# Altium schematic symbol library BIB SCH GERAL.SchLib: 587 symbols (part 3 of 4)
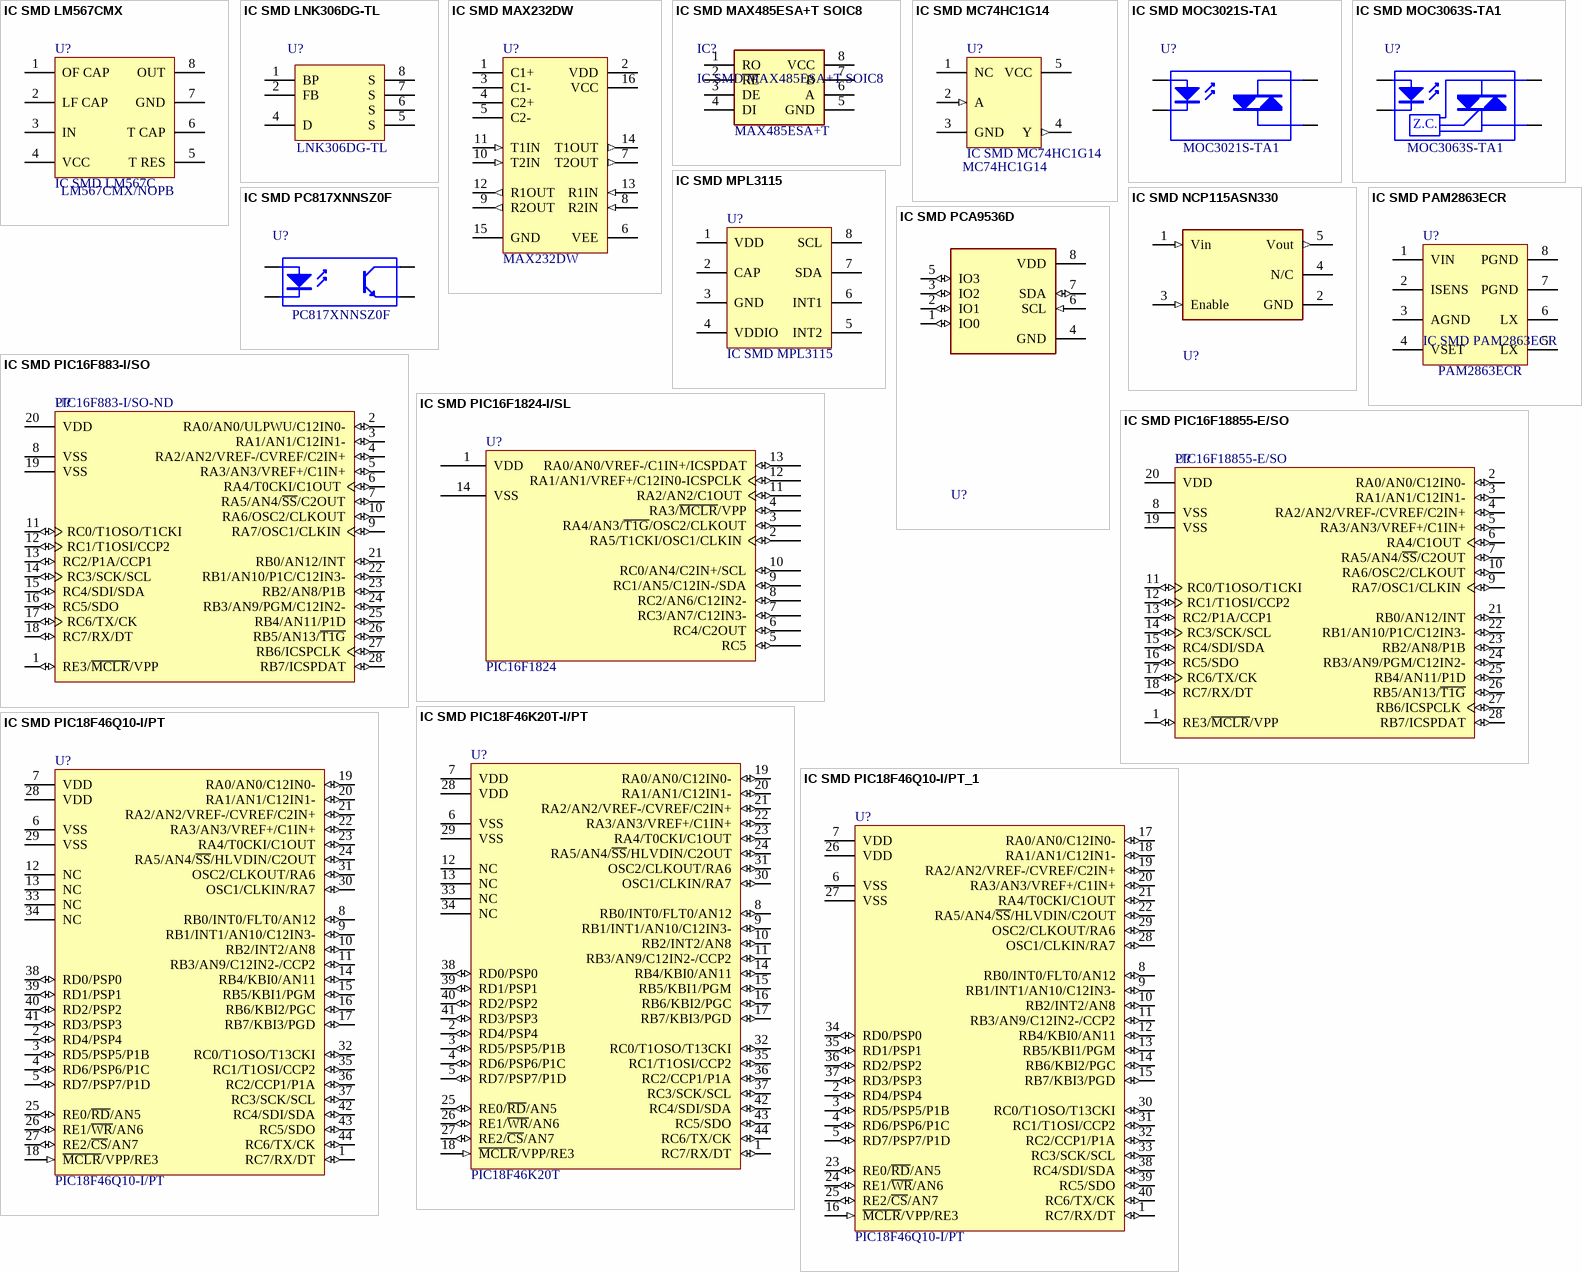
[diagram p17: symbols IC SMD LM567CMX to IC SMD PIC18F46Q10-I/PT_1]

## IC SMD PIC16F1824-I/SL
designator U?, comment PIC16F1824
Flash-Based 8-Bit CMOS Microcontroller with nanoWatt Technology, 7K Program Memory, 256 Bytes Data Memory, 256 Bytes EEPROM Memory, 12 I/O pins, 14-Pin SOIC, Standard VDD Range, Industrial Temperature; Manufacturer: Microchip; Manufacturer Part Number: PIC16F1824-I/SL; COD. CRISTOFOLI: EMP.00404; List: IC MCU 8BIT 7KB FLASH 14SOIC/PIC16F1824-I/SL/Microchip Technology; PackageDescription: 14-Lead Plastic Small Outline (SL) - Narrow, 3.90mm Body [SOIC]; PackageReference: SOIC-SL14; URLdatasheet: http://ww1.microchip.com/downloads/en/DeviceDoc/41419D.pdf; URLdistribuidor1: http://br.mouser.com/ProductDetail/Microchip/PIC16F1824-I-SL/?qs=%2fha2pyFadujaS0CXibBXJLHUovI9P%252biyA2UaNhp7D5lD110CbejmjQ%3d%3d; URLdistribuidor2: http://www.digikey.com/product-detail/en/PIC16F1824-I%2FSL/PIC16F1824-I%2FSL-ND/2480334; URLdistribuidor3: http://www.farnellnewark.com.br/cismdmcu32mhzsoic14p,product,1814945,4442636.aspx
footprint SOIC-SL14_L (SOIC, 14-Leads, Body 8.7x3.9mm, Pitch 1.27mm, IPC High Density)
footprint SOIC-SL14_M (SOIC, 14-Leads, Body 8.7x3.9mm, Pitch 1.27mm, IPC Low Density)
footprint SOIC-SL14_N (SOIC, 14-Leads, Body 8.7x3.9mm, Pitch 1.27mm, IPC Medium Density)
pins: 1 VDD (power), 2 RA5/T1CKI/OSC1/CLKIN (io), 3 RA4/AN3/~{T1G}/OSC2/CLKOUT (io), 4 RA3/~{MCLR}/VPP (io), 5 RC5 (io), 6 RC4/C2OUT (io), 7 RC3/AN7/C12IN3- (io), 8 RC2/AN6/C12IN2- (io), 9 RC1/AN5/C12IN-/SDA (io), 10 RC0/AN4/C2IN+/SCL (io), 11 RA2/AN2/C1OUT (io), 12 RA1/AN1/VREF+/C12IN0-ICSPCLK (io), 13 RA0/AN0/VREF-/C1IN+/ICSPDAT (io), 14 VSS (power)

## IC SMD PIC16F18855-E/SO
designator U?  Manufacturer Part Number: PIC16F18855-E/SO  (hidden comment: IC SMD PIC16F18855-E/SO)
Manufacturer: Microchip; List: IC MCU 8BIT 14KB FLASH 28SOIC/PIC16F18855-E/SO/critico/Microchip; COD. CRISTOFOLI: EMP.00387; Published: 29-Jan-2009; LatestRevisionDate: 02-Dec-2009; LatestRevisionNote: Updated datasheet to version revF, Apr-2009.; DatasheetVersion: revF, Apr-2009; PackageReference: SSOP-SS28; Publisher: Altium Limited; Code_JEDEC: MS-150; Code_IPC: SOP65P780-28; ComponentLink1Description: Datasheet; ComponentLink1URL: http://ww1.microchip.com/downloads/en/DeviceDoc/41291F.pdf; ComponentLink2Description: Packaging Specification; ComponentLink2URL: http://www.microchip.com/stellent/groups/techpub_sg/documents/packagingspec/en012702.pdf; ComponentLink3Description: Microchip.com Home; ComponentLink3URL: http://www.microchip.com/
footprint SSOP-SS28_N (SOP, 28-Leads, Body 10.2x5.2mm, Pitch 0.65mm, IPC Medium Density)
footprint SSOP-SS28_L (SOP, 28-Leads, Body 10.2x5.2mm, Pitch 0.65mm, IPC High Density)
footprint SSOP-SS28_M (SOP, 28-Leads, Body 10.2x5.2mm, Pitch 0.65mm, IPC Low Density)
pins: 1 RE3/~{MCLR}/VPP (io), 2 RA0/AN0/C12IN0- (io), 3 RA1/AN1/C12IN1- (io), 4 RA2/AN2/VREF-/CVREF/C2IN+ (io), 5 RA3/AN3/VREF+/C1IN+ (io), 6 RA4/C1OUT (io), 7 RA5/AN4/~{SS}/C2OUT (io), 8 VSS (power), 9 RA7/OSC1/CLKIN (io), 10 RA6/OSC2/CLKOUT (io), 11 RC0/T1OSO/T1CKI (io), 12 RC1/T1OSI/CCP2 (io), 13 RC2/P1A/CCP1 (io), 14 RC3/SCK/SCL (io), 15 RC4/SDI/SDA (io), 16 RC5/SDO (io), 17 RC6/TX/CK (io), 18 RC7/RX/DT (io), 19 VSS (power), 20 VDD (power), 21 RB0/AN12/INT (io), 22 RB1/AN10/P1C/C12IN3- (io), 23 RB2/AN8/P1B (io), 24 RB3/AN9/PGM/C12IN2- (io), 25 RB4/AN11/P1D (io), 26 RB5/AN13/~{T1G} (io), 27 RB6/ICSPCLK (io), 28 RB7/ICSPDAT (io)

## IC SMD PIC18F46K20T-I/PT
designator U?, comment PIC18F46K20T
10-Bit A/D, 32K Flash, 44-Pin TQFP; Manufacturer Part Number: PIC18F46K20T-I/PTTR-ND; Manufacturer: Microchip; COD. CRISTOFOLI: EMP.00259; List: Microcontroller 32K Flash, 44-Pin TQFP/PIC18F46K20T-I/PT/Microchip Technology/CRITICO; Published: 2-Dec-2009; DatasheetVersion: revF, Sep-2009; PackageVersion: revBB, Aug-2009; PackageReference: TQFP-PT44; Publisher: Altium Limited; PackageDescription: 44-Lead Plastic Thin Quad Flatpack (PT) - 10x10x1mm Body, 2.00mm [TQFP]; Supplier 1: Digi-Key; ComponentLink1URL: http://ww1.microchip.com/downloads/en/DeviceDoc/41303F.pdf; ComponentLink2Description: Packaging Specification; ComponentLink2URL: http://www.microchip.com/stellent/groups/techpub_sg/documents/packagingspec/en012702.pdf; ComponentLink3URL: http://www.microchip.com/
footprint TQFP-PT44_N (Thin QFP, 44-Leads, Body 10x10mm, Pitch 0.8mm, IPC Medium Density)
footprint TQFP-PT44_L (Thin QFP, 44-Leads, Body 10x10mm, Pitch 0.8mm, IPC High Density)
footprint TQFP-PT44_M (Thin QFP, 44-Leads, Body 10x10mm, Pitch 0.8mm, IPC Low Density)
pins: 1 RC7/RX/DT (io), 2 RD4/PSP4 (io), 3 RD5/PSP5/P1B (io), 4 RD6/PSP6/P1C (io), 5 RD7/PSP7/P1D (io), 6 VSS (power), 7 VDD (power), 8 RB0/INT0/FLT0/AN12 (io), 9 RB1/INT1/AN10/C12IN3- (io), 10 RB2/INT2/AN8 (io), 11 RB3/AN9/C12IN2-/CCP2 (io), 12 NC, 13 NC, 14 RB4/KBI0/AN11 (io), 15 RB5/KBI1/PGM (io), 16 RB6/KBI2/PGC (io), 17 RB7/KBI3/PGD (io), 18 ~{MCLR}/VPP/RE3 (in), 19 RA0/AN0/C12IN0- (io), 20 RA1/AN1/C12IN1- (io), 21 RA2/AN2/VREF-/CVREF/C2IN+ (io), 22 RA3/AN3/VREF+/C1IN+ (io), 23 RA4/T0CKI/C1OUT (io), 24 RA5/AN4/~{SS}/HLVDIN/C2OUT (io), 25 RE0/~{RD}/AN5 (io), 26 RE1/~{WR}/AN6 (io), 27 RE2/~{CS}/AN7 (io), 28 VDD (power), 29 VSS (power), 30 OSC1/CLKIN/RA7 (io), 31 OSC2/CLKOUT/RA6 (io), 32 RC0/T1OSO/T13CKI (io), 33 NC, 34 NC, 35 RC1/T1OSI/CCP2 (io), 36 RC2/CCP1/P1A (io), 37 RC3/SCK/SCL (io), 38 RD0/PSP0 (io), 39 RD1/PSP1 (io), 40 RD2/PSP2 (io), 41 RD3/PSP3 (io), 42 RC4/SDI/SDA (io), 43 RC5/SDO (io), 44 RC6/TX/CK (io)

## IC SMD PIC18F46Q10-I/PT
designator U?, comment PIC18F46Q10-I/PT
MICROCONTROLADOR PIC18F46Q10-I/PT; COD. CRISTOFOLI: EMP.00416; Published: 2-Dec-2009; DatasheetVersion: revF, Sep-2009; PackageVersion: revBB, Aug-2009; PackageReference: TQFP-PT44; Publisher: Altium Limited; PackageDescription: 44-Lead Plastic Thin Quad Flatpack (PT) - 10x10x1mm Body, 2.00mm [TQFP]; Supplier 1: Digi-Key; Supplier Part Number 1: PIC18F46Q10-I/PT; Code_JEDEC: MS-026; ComponentLink1Description: Datasheet; ComponentLink1URL: http://ww1.microchip.com/downloads/en/DeviceDoc/41303F.pdf; ComponentLink2Description: Packaging Specification; ComponentLink2URL: http://www.microchip.com/stellent/groups/techpub_sg/documents/packagingspec/en012702.pdf; ComponentLink3Description: Microchip.com Home; ComponentLink3URL: http://www.microchip.com/
footprint TQFP-PT44_N (Thin QFP, 44-Leads, Body 10x10mm, Pitch 0.8mm, IPC Medium Density)
footprint TQFP-PT44_L (Thin QFP, 44-Leads, Body 10x10mm, Pitch 0.8mm, IPC High Density)
footprint TQFP-PT44_M (Thin QFP, 44-Leads, Body 10x10mm, Pitch 0.8mm, IPC Low Density)
pins: 1 RC7/RX/DT (io), 2 RD4/PSP4 (io), 3 RD5/PSP5/P1B (io), 4 RD6/PSP6/P1C (io), 5 RD7/PSP7/P1D (io), 6 VSS (power), 7 VDD (power), 8 RB0/INT0/FLT0/AN12 (io), 9 RB1/INT1/AN10/C12IN3- (io), 10 RB2/INT2/AN8 (io), 11 RB3/AN9/C12IN2-/CCP2 (io), 12 NC, 13 NC, 14 RB4/KBI0/AN11 (io), 15 RB5/KBI1/PGM (io), 16 RB6/KBI2/PGC (io), 17 RB7/KBI3/PGD (io), 18 ~{MCLR}/VPP/RE3 (in), 19 RA0/AN0/C12IN0- (io), 20 RA1/AN1/C12IN1- (io), 21 RA2/AN2/VREF-/CVREF/C2IN+ (io), 22 RA3/AN3/VREF+/C1IN+ (io), 23 RA4/T0CKI/C1OUT (io), 24 RA5/AN4/~{SS}/HLVDIN/C2OUT (io), 25 RE0/~{RD}/AN5 (io), 26 RE1/~{WR}/AN6 (io), 27 RE2/~{CS}/AN7 (io), 28 VDD (power), 29 VSS (power), 30 OSC1/CLKIN/RA7 (io), 31 OSC2/CLKOUT/RA6 (io), 32 RC0/T1OSO/T13CKI (io), 33 NC, 34 NC, 35 RC1/T1OSI/CCP2 (io), 36 RC2/CCP1/P1A (io), 37 RC3/SCK/SCL (io), 38 RD0/PSP0 (io), 39 RD1/PSP1 (io), 40 RD2/PSP2 (io), 41 RD3/PSP3 (io), 42 RC4/SDI/SDA (io), 43 RC5/SDO (io), 44 RC6/TX/CK (io)

## IC SMD PIC18F46Q10-I/PT_1
designator U?, comment PIC18F46Q10-I/PT
MICROCONTROLADOR PIC18F46Q10-I/MP; COD. CRISTOFOLI: EMP.00462; Published: 2-Dec-2009; DatasheetVersion: revF, Sep-2009; PackageVersion: revBB, Aug-2009; PackageReference: QFN-40; Publisher: Altium Limited; PackageDescription: 44-Lead Plastic Thin Quad Flatpack (PT) - 10x10x1mm Body, 2.00mm [TQFP]; Supplier 1: Digi-Key; Supplier Part Number 1: PIC18F46Q10-I/MP; Code_JEDEC: MS-026; ComponentLink1Description: Datasheet; ComponentLink1URL: http://ww1.microchip.com/downloads/en/DeviceDoc/41303F.pdf; ComponentLink2Description: Packaging Specification; ComponentLink2URL: http://www.microchip.com/stellent/groups/techpub_sg/documents/packagingspec/en012702.pdf; ComponentLink3Description: Microchip.com Home; ComponentLink3URL: http://www.microchip.com/
footprint QFN40-5x5 (QFN, 40-Leads, Body 5x5mm, Pitch 0.4mm, Thermal Pad 3.15x3.15mm, TI Recommended)
footprint TQFP-PT44_L (Thin QFP, 44-Leads, Body 10x10mm, Pitch 0.8mm, IPC High Density)
footprint TQFP-PT44_M (Thin QFP, 44-Leads, Body 10x10mm, Pitch 0.8mm, IPC Low Density)
pins: 1 RC7/RX/DT (io), 2 RD4/PSP4 (io), 3 RD5/PSP5/P1B (io), 4 RD6/PSP6/P1C (io), 5 RD7/PSP7/P1D (io), 6 VSS (power), 7 VDD (power), 8 RB0/INT0/FLT0/AN12 (io), 9 RB1/INT1/AN10/C12IN3- (io), 10 RB2/INT2/AN8 (io), 11 RB3/AN9/C12IN2-/CCP2 (io), 12 RB4/KBI0/AN11 (io), 13 RB5/KBI1/PGM (io), 14 RB6/KBI2/PGC (io), 15 RB7/KBI3/PGD (io), 16 ~{MCLR}/VPP/RE3 (in), 17 RA0/AN0/C12IN0- (io), 18 RA1/AN1/C12IN1- (io), 19 RA2/AN2/VREF-/CVREF/C2IN+ (io), 20 RA3/AN3/VREF+/C1IN+ (io), 21 RA4/T0CKI/C1OUT (io), 22 RA5/AN4/~{SS}/HLVDIN/C2OUT (io), 23 RE0/~{RD}/AN5 (io), 24 RE1/~{WR}/AN6 (io), 25 RE2/~{CS}/AN7 (io), 26 VDD (power), 27 VSS (power), 28 OSC1/CLKIN/RA7 (io), 29 OSC2/CLKOUT/RA6 (io), 30 RC0/T1OSO/T13CKI (io), 31 RC1/T1OSI/CCP2 (io), 32 RC2/CCP1/P1A (io), 33 RC3/SCK/SCL (io), 34 RD0/PSP0 (io), 35 RD1/PSP1 (io), 36 RD2/PSP2 (io), 37 RD3/PSP3 (io), 38 RC4/SDI/SDA (io), 39 RC5/SDO (io), 40 RC6/TX/CK (io)

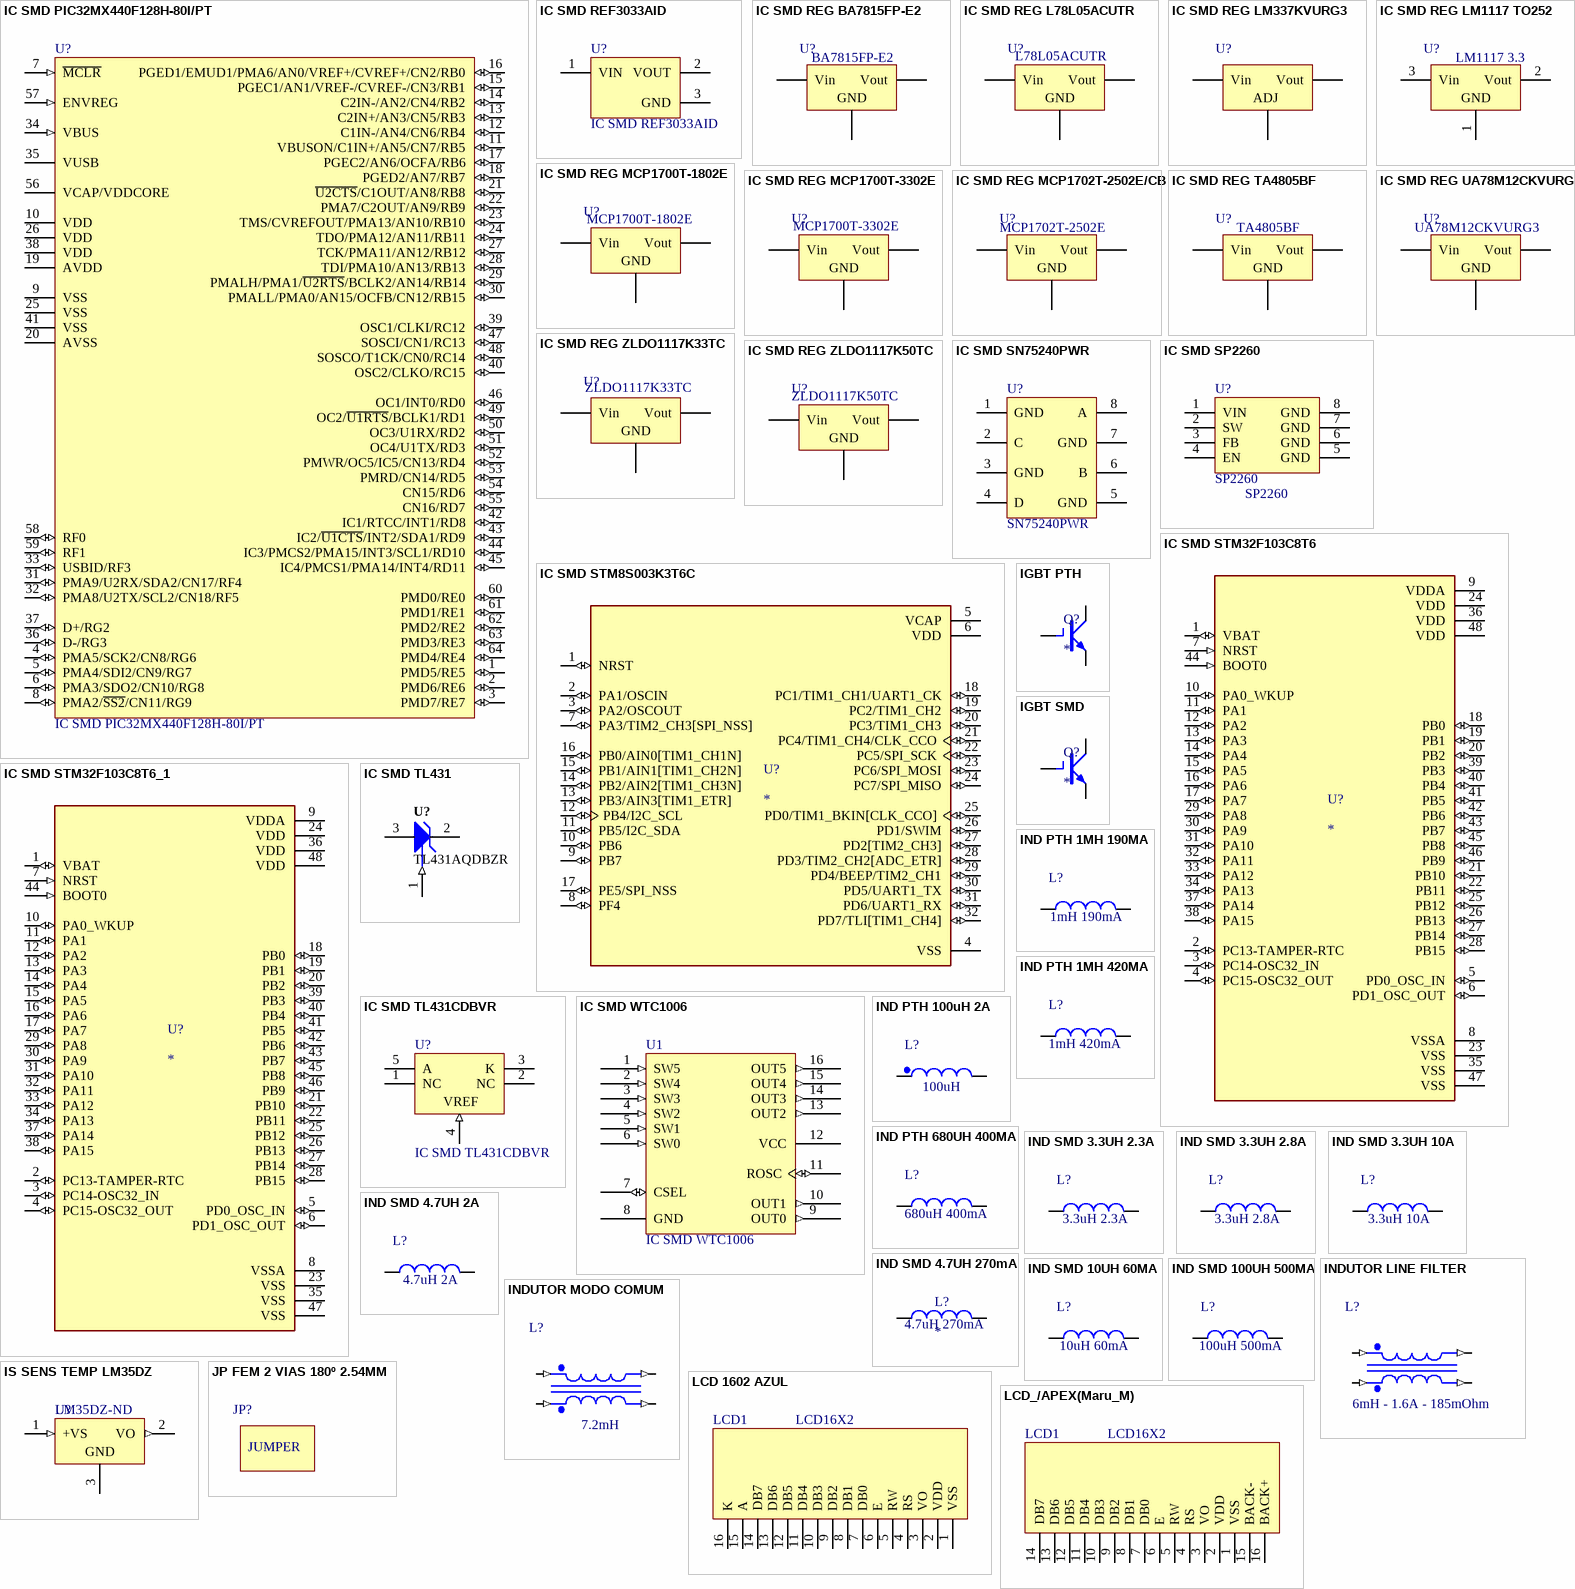
[diagram p8: symbols IC SMD PIC32MX440F128H-80I/PT to LCD_/APEX(Maru_M)]

## IC SMD PIC32MX440F128H-80I/PT
designator U?
80 MHz, 32-Bit, USB, 128KB Program Memory, 64-pin TQFP; Manufacturer Part Number: PIC32MX440F128H-80I/PT-ND; Manufacturer: Microchip; COD. CRISTOFOLI: EMP.00127; List: IC MCU 32BIT 128KB FLASH 64TQFP/PIC32MX440F128H-80I/PT/Microchip; Published: 29-Jan-2009; LatestRevisionDate: 2-Dec-2009; LatestRevisionNote: Datasheet updated to version revF, Jun-2009.; DatasheetVersion: revF, Jun-2009; PackageVersion: revBB, Aug-2009; PackageReference: TQFP-PT64; Publisher: Altium Limited; PackageDescription: 64-Lead Thin Plastic Quad Flat Pack (PT) - 10x10x1mm Body, 2.00mm [TQFP]; Supplier 1: Digi-Key; Supplier 2: Farnell; Supplier Part Number 2: 1778945; ComponentLink1URL: http://ww1.microchip.com/downloads/en/DeviceDoc/61143F.pdf; ComponentLink2Description: Packaging Specification; ComponentLink2URL: http://ww1.microchip.com/downloads/en/PackagingSpec/en012702.pdf; ComponentLink3URL: http://www.microchip.com/
footprint TQFP-PT64_N (Thin QFP, 64-Leads, Body 10x10mm, Pitch 0.5mm, IPC Medium Density)
footprint TQFP-PT64_L (Thin QFP, 64-Leads, Body 10x10mm, Pitch 0.5mm, IPC High Density)
footprint TQFP-PT64_M (Thin QFP, 64-Leads, Body 10x10mm, Pitch 0.5mm, IPC Low Density)
pins: 1 PMD5/RE5 (io), 2 PMD6/RE6 (io), 3 PMD7/RE7 (io), 4 PMA5/SCK2/CN8/RG6 (io), 5 PMA4/SDI2/CN9/RG7 (io), 6 PMA3/SDO2/CN10/RG8 (io), 7 ~{MCLR} (in), 8 PMA2/~{SS2}/CN11/RG9 (io), 9 VSS (power), 10 VDD (power), 11 VBUSON/C1IN+/AN5/CN7/RB5 (io), 12 C1IN-/AN4/CN6/RB4 (io), 13 C2IN+/AN3/CN5/RB3 (io), 14 C2IN-/AN2/CN4/RB2 (io), 15 PGEC1/AN1/VREF-/CVREF-/CN3/RB1 (io), 16 PGED1/EMUD1/PMA6/AN0/VREF+/CVREF+/CN2/RB0 (io), 17 PGEC2/AN6/OCFA/RB6 (io), 18 PGED2/AN7/RB7 (io), 19 AVDD (power), 20 AVSS (power), 21 ~{U2CTS}/C1OUT/AN8/RB8 (io), 22 PMA7/C2OUT/AN9/RB9 (io), 23 TMS/CVREFOUT/PMA13/AN10/RB10 (io), 24 TDO/PMA12/AN11/RB11 (io), 25 VSS (power), 26 VDD (power), 27 TCK/PMA11/AN12/RB12 (io), 28 TDI/PMA10/AN13/RB13 (io), 29 PMALH/PMA1/~{U2RTS}/BCLK2/AN14/RB14 (io), 30 PMALL/PMA0/AN15/OCFB/CN12/RB15 (io), 31 PMA9/U2RX/SDA2/CN17/RF4 (io), 32 PMA8/U2TX/SCL2/CN18/RF5 (io), 33 USBID/RF3 (io), 34 VBUS (in), 35 VUSB (power), 36 D-/RG3 (io), 37 D+/RG2 (io), 38 VDD (power), 39 OSC1/CLKI/RC12 (io), 40 OSC2/CLKO/RC15 (io), 41 VSS (power), 42 IC1/RTCC/INT1/RD8 (io), 43 IC2/~{U1CTS}/INT2/SDA1/RD9 (io), 44 IC3/PMCS2/PMA15/INT3/SCL1/RD10 (io), 45 IC4/PMCS1/PMA14/INT4/RD11 (io), 46 OC1/INT0/RD0 (io), 47 SOSCI/CN1/RC13 (io), 48 SOSCO/T1CK/CN0/RC14 (io), 49 OC2/~{U1RTS}/BCLK1/RD1 (io), 50 OC3/U1RX/RD2 (io), 51 OC4/U1TX/RD3 (io), 52 PMWR/OC5/IC5/CN13/RD4 (io), 53 PMRD/CN14/RD5 (io), 54 CN15/RD6 (io), 55 CN16/RD7 (io), 56 VCAP/VDDCORE (power), 57 ENVREG (in), 58 RF0 (io), 59 RF1 (io), 60 PMD0/RE0 (io), 61 PMD1/RE1 (io), 62 PMD2/RE2 (io), 63 PMD3/RE3 (io), 64 PMD4/RE4 (io)

## IC SMD REF3033AID
designator U?
REFERENCIA 3V3; List: IC VREF SERIES PREC 3.3V SOT23-3/REF3033AIDBZT/Texas Instrument; COD. CRISTOFOLI: EMP.00153
footprint SOT-23
pins: 1 VIN (power), 2 VOUT (power), 3 GND (power)

## IC SMD REG BA7815FP-E2
designator U?  value BA7815FP-E2  (hidden comment: IC SMD REG BA7815FP-E2)
REGULADOR 15V 1A; Manufacturer: ROHM Semiconductor; COD. CRISTOFOLI: EMP.00341; List: REG STANDARD REG POS 15V 1A TO252-3/755-BA7815FP-E2/ROHM Semiconductor; Manufacturer Part Number: BA7815FP-E2
pins: 1 Vin, 2 GND, 3 Vout

## IC SMD REG L78L05ACUTR
designator U?  value L78L05ACUTR  (hidden comment: IC SMD REG L78L05ACUTR)
REGULADOR 5V 100mA; COD. CRISTOFOLI: EMP.00403; List: IC REG LINEAR 5V 150MA SOT89-3/MCP1804T-5002I/MB/Microchip Technology/L78L05ACUTR/ STMicroelectronics; Manufacturer Part Number: L78L05ACUTR
pins: 1 Vin, 2 GND, 3 Vout

## IC SMD REG LM337KVURG3
designator U?, comment LM337KVURG3  (value not drawn)
IC REG LIN NEG ADJ 1.5A TO252-3; Manufacturer: Texas Instruments; COD. CRISTOFOLI: EMP.00431; Voltage: -1.2 A -37V; List: REGULADOR DE TENSAO AJUSTAVEL TO-252-3 LM337KVURG3; Manufacturer Part Number: LM337KVURG3; Value: LM337KVURG3
footprint DPAK228P970X238-3M (D-PAK, 3-Pads, Body 6,20x6,72mm (max), IPC Medium Density)
pins: 1 ADJ, 2 Vin, 3 Vout

## IC SMD REG LM1117 TO252
designator U?, comment LM1117  (value not drawn)
800mA Low-Dropout Linear Regulator; Manufacturer: Texas Instruments; COD. CRISTOFOLI: EMP.50030; Voltage: 1.8 A 5V; List: IC SMD REG LM1117 TO252; Value: LM1117
footprint TO252-3
pins: 1 ADJ, 2 Vout, 3 Vin
text: LM1117 3.3; GND

## IC SMD REG MCP1700T-1802E
designator U?  value MCP1700T-1802E  (hidden comment: IC SMD REG MCP1700T-1802E)
REGULADOR 1V8 200mA; Manufacturer: Microchip Technology; Manufacturer Part Number: MCP1700T-1802E/MB; COD. CRISTOFOLI: EMP.00178; List: IC REG LDO 1.8V 0.2A SOT89-3/MCP1700T-1802E/MB/Microchip Technology
pins: 1 Vin, 2 GND, 3 Vout

## IC SMD REG MCP1700T-3302E
designator U?  value MCP1700T-3302E  (hidden comment: IC SMD REG MCP1700T-3302E)
REGULADOR 3V3 250mA; Manufacturer: Microchip Technology; Manufacturer Part Number: MCP1700T-3302E/MB; COD. CRISTOFOLI: EMP.00177; List: IC REG LDO 3.3V 0.25A SOT89-3/MCP1700T-3302E/MB/Microchip Technology
pins: 1 Vin, 2 GND, 3 Vout

## IC SMD REG MCP1702T-2502E/CB
designator U?  value MCP1702T-2502E  (hidden comment: IC SMD REG MCP1702T-2502E/CB)
REGULADOR 2V5 250mA; Manufacturer: Microchip; COD. CRISTOFOLI: EMP.00122; List: IC REG LDO 2.5V 0.25A SOT23A-3/MCP1702T-2502E/CB/Microchip; Manufacturer Part Number: MCP1702T-2502E/CB
pins: 1 Vin, 2 GND, 3 Vout

## IC SMD REG TA4805BF
designator U?  value TA4805BF  (hidden comment: IC SMD REG TA4805BF)
REGULADOR 5V 1A; Manufacturer: Toshiba; Manufacturer Part Number: TA4805BF(T6L1,NQ); COD. CRISTOFOLI: EMP.00233; List: REG LDO Voltage Regulators Voltage Reg LDO In=16V Out=5V 1A/757-TA4805BF(T6L1,NQ)/Toshiba
pins: 1 Vin, 2 GND, 3 Vout

## IC SMD REG UA78M12CKVURG3
designator U?  value UA78M12CKVURG3  (hidden comment: IC SMD REG UA78M12CKVURG3)
REGULADOR 5V 500mA; Manufacturer: Texas Instruments; COD. CRISTOFOLI: EMP.00262; List: IC REG LDO 12V 0.5A TO252-3/UA78M12CKVURG3/Texas Instruments; Manufacturer Part Number: UA78M12CKVURG3
pins: 1 Vin, 2 GND, 3 Vout

## IC SMD REG ZLDO1117K33TC
designator U?  value ZLDO1117K33TC  (hidden comment: IC SMD REG ZLDO1117K33TC)
REGULADOR 3V3 1A; Manufacturer: Diodes Inc; COD. CRISTOFOLI: EMP.00155; List: IC REG LDO 3.3V 1A TO252-3/ZLDO1117K33TC/Diodes Inc; Manufacturer Part Number: ZLDO1117K33TC
pins: 1 GND, 2 Vout, 3 Vin

## IC SMD REG ZLDO1117K50TC
designator U?  value ZLDO1117K50TC  (hidden comment: IC SMD REG ZLDO1117K50TC)
REGULADOR 5V 1A; Manufacturer: Diodes Inc; COD. CRISTOFOLI: EMP.00154; List: IC REG LDO 5V 1A TO252-3/ZLDO1117K50TC/Diodes Inc; Manufacturer Part Number: ZLDO1117K50TC
pins: 1 GND, 2 Vout, 3 Vin

## IC SMD SN75240PWR
designator U?, comment SN75240PWR
IC DUAL USB PORT TVS 8-TSSOP; List: IC DUAL USB PORT TVS 8-TSSOP/SN75240PWR/Texas Instrument; COD. CRISTOFOLI: EMP.00151
footprint PW008
pins: 1 GND, 2 C, 3 GND, 4 D, 5 GND, 6 B, 7 GND, 8 A

## IC SMD SP2260
designator U?, comment SP2260
60V Buck LED Driver; COD. CRISTOFOLI: EMP.00000; List: 60V Buck LED Driver; ComponentLink1Description: Manufacturer Link; ComponentLink1URL: http://www.maxim-ic.com/; ComponentLink2Description: Datasheet; ComponentLink2URL: http://pdfserv.maxim-ic.com/en/ds/MAX220-MAX249.pdf; PARTNUMBER: SP2260
pins: 1 VIN, 2 SW, 3 FB, 4 EN, 5 GND, 6 GND, 7 GND, 8 GND

## IC SMD STM8S003K3T6C
designator U?
Mainstream Value line 8-bit MCU with 8 Kbytes Flash, 16 MHz CPU, integrated EEPROM; MP: aaaaaaaaaaaaaaaa; Package: None; Price: None; Availability: Unavailable; Value: *
footprint STM8S003K3T6C
pins: 1 NRST (io), 2 PA1/OSCIN (io), 3 PA2/OSCOUT (io), 4 VSS (power), 5 VCAP (power), 6 VDD (power), 7 PA3/TIM2_CH3[SPI_NSS] (io), 8 PF4 (io), 9 PB7 (io), 10 PB6 (io), 11 PB5/I2C_SDA (io), 12 PB4/I2C_SCL (io), 13 PB3/AIN3[TIM1_ETR] (io), 14 PB2/AIN2[TIM1_CH3N] (io), 15 PB1/AIN1[TIM1_CH2N] (io), 16 PB0/AIN0[TIM1_CH1N] (io), 17 PE5/SPI_NSS (io), 18 PC1/TIM1_CH1/UART1_CK (io), 19 PC2/TIM1_CH2 (io), 20 PC3/TIM1_CH3 (io), 21 PC4/TIM1_CH4/CLK_CCO (io), 22 PC5/SPI_SCK (io), 23 PC6/SPI_MOSI (io), 24 PC7/SPI_MISO (io), 25 PD0/TIM1_BKIN[CLK_CCO] (io), 26 PD1/SWIM (io), 27 PD2[TIM2_CH3] (io), 28 PD3/TIM2_CH2[ADC_ETR] (io), 29 PD4/BEEP/TIM2_CH1 (io), 30 PD5/UART1_TX (io), 31 PD6/UART1_RX (io), 32 PD7/TLI[TIM1_CH4] (io)

## IC SMD STM32F103C8T6
designator U?
Mainstream Performance line, ARM Cortex-M3 MCU with 64 Kbytes Flash, 72 MHz CPU, motor control, USB and CAN; MP: STM32F103C8T6; Value: *; Availability: Unavailable; Price: None; Package: None
footprint QFP50P900X900X160-48N
pins: 1 VBAT (io), 2 PC13-TAMPER-RTC (io), 3 PC14-OSC32_IN (io), 4 PC15-OSC32_OUT (io), 5 PD0_OSC_IN (io), 6 PD1_OSC_OUT (io), 7 NRST (in), 8 VSSA (power), 9 VDDA (power), 10 PA0_WKUP (io), 11 PA1 (io), 12 PA2 (io), 13 PA3 (io), 14 PA4 (io), 15 PA5 (io), 16 PA6 (io), 17 PA7 (io), 18 PB0 (io), 19 PB1 (io), 20 PB2 (io), 21 PB10 (io), 22 PB11 (io), 23 VSS (power), 24 VDD (power), 25 PB12 (io), 26 PB13 (io), 27 PB14 (io), 28 PB15 (io), 29 PA8 (io), 30 PA9 (io), 31 PA10 (io), 32 PA11 (io), 33 PA12 (io), 34 PA13 (io), 35 VSS (power), 36 VDD (power), 37 PA14 (io), 38 PA15 (io), 39 PB3 (io), 40 PB4 (io), 41 PB5 (io), 42 PB6 (io), 43 PB7 (io), 44 BOOT0 (in), 45 PB8 (io), 46 PB9 (io), 47 VSS (power), 48 VDD (power)

## IC SMD STM32F103C8T6_1
designator U?
Mainstream Performance line, ARM Cortex-M3 MCU with 64 Kbytes Flash, 72 MHz CPU, motor control, USB and CAN; MP: STM32F103C8T6; Value: *; Availability: Unavailable; Price: None; Package: None
footprint QFP50P900X900X160-48N
pins: 1 VBAT (io), 2 PC13-TAMPER-RTC (io), 3 PC14-OSC32_IN (io), 4 PC15-OSC32_OUT (io), 5 PD0_OSC_IN (io), 6 PD1_OSC_OUT (io), 7 NRST (in), 8 VSSA (power), 9 VDDA (power), 10 PA0_WKUP (io), 11 PA1 (io), 12 PA2 (io), 13 PA3 (io), 14 PA4 (io), 15 PA5 (io), 16 PA6 (io), 17 PA7 (io), 18 PB0 (io), 19 PB1 (io), 20 PB2 (io), 21 PB10 (io), 22 PB11 (io), 23 VSS (power), 24 VDD (power), 25 PB12 (io), 26 PB13 (io), 27 PB14 (io), 28 PB15 (io), 29 PA8 (io), 30 PA9 (io), 31 PA10 (io), 32 PA11 (io), 33 PA12 (io), 34 PA13 (io), 35 VSS (power), 36 VDD (power), 37 PA14 (io), 38 PA15 (io), 39 PB3 (io), 40 PB4 (io), 41 PB5 (io), 42 PB6 (io), 43 PB7 (io), 44 BOOT0 (in), 45 PB8 (io), 46 PB9 (io), 47 VSS (power), 48 VDD (power)

## IC SMD TL431
designator U?, comment TL431AQDBZR
Adjustable Precision Shunt Regulator, 34 ppm / degC, 100 mA, -40 to 125 degC, 3-pin SOT-23 (DBZ), Green (RoHS & no Sb/Br); Manufacturer: Texas Instruments; Iout/Iz(Max)(mA): 100; Min Iz for Regulation(uA): 600; SubFamily: Shunt Voltage Reference; Temp Coeff(Typ)(ppm/ degree C): 34; VO Adj(Max)(V): 36; Rating: Catalog; Initial Accuracy @ 25/deg C(%): 1; VO Adj(Min)(V): 2.495; Temp Coeff(Max)(ppm/ degree C): 92; PackageReference: DBZ0003A; ComponentLink1Description: Manufacturer URL; Mounting Technology: Surface Mount; ComponentLink2URL: http://www.ti.com/general/docs/lit/getliterature.tsp?genericPartNumber=TL431A&fileType=pdf; PackageVersion: 4203227/B; ComponentLink2Description: Datasheet; PackageDescription: 3-Pin Plastic Small Outline, Body 2.92 x 1.3 mm, Pitch 0.95 mm; ComponentLink1URL: http://www.ti.com/; Eco-Plan: Green (RoHS & no Sb/Br); Code_JEDEC: TO-236; ComponentLink3URL: http://www.ti.com/litv/pdf/mpds108a; DatasheetVersion: SLVS543M; ComponentLink3Description: Package Specification; PartNumber: TL431AQDBZR
footprint SOT23 TL431 (SOT23, 3-Leads, Body 3.04x1.4mm, Pitch 0.95mm, IPC High Density)
pins: 1 REF (in), 2 CATHODE, 3 ANODE

## IC SMD TL431CDBVR
designator U?
Adjustable Precision Shunt Regulator; List: IC VREF SHUNT PREC ADJ SOT-23-5/TL431CDBVR/Texas Instuments; COD. CRISTOFOLI: EMP.00106; Published: 15-Apr-2002; LatestRevisionDate: 16-Oct-2006; LatestRevisionNote: IPC-7351 Footprint Added.; DatasheetVersion: Oct-2000; PackageVersion: Apr-2005; PackageReference: DBV005; Publisher: Altium Limited; PackageDescription: 5-Pin SOT-23 Package 0.95 mm Pitch, 2.8 mm Lead Span; Code_JEITA: SC-74A; Code_JEDEC: MO-178AA; Code_IPC: SOT23-5; ComponentLink1Description: Manufacturer Link; ComponentLink1URL: http://www.ti.com/; ComponentLink2Description: Datasheet; ComponentLink2URL: http://www-s.ti.com/sc/ds/tl431a.pdf
footprint DBV005_N (SOT23, 5-Leads, Body 2.9x1.6mm, Pitch 0.95mm, Lead Span 2.8mm, IPC Medium Density)
footprint DBV005_L (SOT23, 5-Leads, Body 2.9x1.6mm, Pitch 0.95mm, Lead Span 2.8mm, IPC High Density)
footprint DBV005_M (SOT23, 5-Leads, Body 2.9x1.6mm, Pitch 0.95mm, Lead Span 2.8mm, IPC Low Density)
simulation model TL431 (SUBCKT)
pins: 1 NC, 2 NC, 3 K (power), 4 REF (in), 5 A (power)
text: VREF

## IC SMD WTC1006
designator U1
TOUCH SENSOR 6 BUTTON; List: IC 6 Teclas, touch/WTC1006BSI/Wincom; COD. CRISTOFOLI: EMP.00128; Datasheet: http://www.wincomtech.com/down/upload/20110817/1313566811.pdf
footprint NSOP16
pins: 1 SW5 (in), 2 SW4 (in), 3 SW3 (in), 4 SW2 (in), 5 SW1 (in), 6 SW0 (in), 7 CSEL (io), 8 GND (power), 9 OUT0 (out), 10 OUT1 (out), 11 ROSC (io), 12 VCC (power), 13 OUT2 (out), 14 OUT3 (out), 15 OUT4 (out), 16 OUT5 (out)

## IGBT PTH
designator Q?
Igbt 600v 48a 150w To268; MP: IXGT24N60C; COD. CRISTOFOLI: EMP.50152; List: IGBT PTH; Package: None; Price: None; Value: *; Availability: Unavailable
footprint TO545P2020X520X2910-3
pins: 1 G, 3 E, 4 C

## IGBT SMD
designator Q?
Igbt 600v 48a 150w To268; MP: IXGT24N60C; Package: None; Price: None; Value: *; Availability: Unavailable
footprint TO545P1890X510-3N
pins: 1 G, 3 E, 4 C

## IND PTH 1MH 190MA
designator L?  value 1mH 190mA  (hidden comment: IND PTH 1MH 190MA)
Manufacturer: TDK Corporation; Manufacturer Part Number: SL0709RA-102KR19-PF; COD. CRISTOFOLI: EMP.00218; List: INDUCTOR 1000UH .19A RADIAL/TSL0709RA-102KR19-PF/TDK Corporation
pins: 1, 2

## IND PTH 1MH 420MA
designator L?  value 1mH 420mA  (hidden comment: IND PTH 1MH 420MA)
Manufacturer: Bourns Inc.; Manufacturer Part Number: RLB0914-102KL; COD. CRISTOFOLI: EMP.00405; List: FIXED IND 1MH 420MA 2.1 OHM TH/RLB0914-102KL/Bourns Inc.
pins: 1, 2

## IND PTH 100uH 2A
designator L?  value 100uH  (hidden comment: IND PTH 100uH 2A)
Fixed Inductors 100uH 15% SMD 1208; Manufacturer: BOURNS; Manufacturer Part Number: SRR1208-101YL; COD. CRISTOFOLI: EMP.00000; List: FIXED IND 100uH 2A/SRR1208-101YL/BOURNS; Tolerance: 15%
pins: 1, 2

## IND PTH 680UH 400MA
designator L?  value 680uH 400mA  (hidden comment: IND PTH 680UH 400MA)
Manufacturer: Bourns Inc.; Manufacturer Part Number: RLB0914-681KL; COD. CRISTOFOLI: EMP.00401; List: FIXED IND 680UH 400MA 1.6 OHM TH/RLB0914-681KL/Bourns Inc.
pins: 1, 2

## IND SMD 3.3UH 2.3A
designator L?  value 3.3uH 2.3A  (hidden comment: IND SMD 3.3UH 2.3A)
Manufacturer: TDK Corporation; Manufacturer Part Number: SLF7045T-3R3M2R5-PF; COD. CRISTOFOLI: EMP.00192; List: INDUCTOR SHIELD PWR 3.3UH 7045/SLF7045T-3R3M2R5-PF/TDK Corporation
pins: 1, 2

## IND SMD 3.3UH 2.8A
designator L?  value 3.3uH 2.8A  (hidden comment: IND SMD 3.3UH 2.8A)
Manufacturer: TDK; Manufacturer Part Number: SLF6045T-3R3N2R8-3PF; COD. CRISTOFOLI: EMP.00119; List: Indutores fixos 3.3uH 30% 2,8A SMT/SLF6045T-3R3N2R8-3PF/TDK
pins: 1, 2

## IND SMD 3.3UH 10A
designator L?  value 3.3uH 10A  (hidden comment: IND SMD 3.3UH 10A)
Manufacturer: TDK Corporation; Manufacturer Part Number: IHLP4040DZER3R3M01; COD. CRISTOFOLI: EMP.00223; List: INDUCTOR POWER 3.3UH 10A SMD/IHLP4040DZER3R3M01/TDK Corporation
pins: 1, 2

## IND SMD 4.7UH 2A
designator L?  value 4.7uH 2A  (hidden comment: IND SMD 4.7UH 2A)
Manufacturer: TDK Corporation; Manufacturer Part Number: SLF7045T-4R7M2R0-PF; COD. CRISTOFOLI: EMP.00235; List: IND FIXED  4.7UH 2A 30 MOHM SMD/SLF7045T-4R7M2R0-PF/TDK Corporation
pins: 1, 2

## IND SMD 4.7UH 270mA
designator L?
Power Inductors - SMD 4.7 NH 20% NH
footprint CAPC0805L
pins: 1, 2
text: 4.7uH 270mA

## IND SMD 10UH 60MA
designator L?  value 10uH 60mA  (hidden comment: IND SMD 10UH 60MA)
Manufacturer: Taiyo Yuden; Manufacturer Part Number: CK2125100M-T; COD. CRISTOFOLI: EMP.00006; List: INDUTORES FIXOS INDCTR HICUR MLTLYR 0805 10UH 20% - TAYIO YUDEN CK2125100M-T
pins: 1, 2

## IND SMD 100UH 500MA
designator L?  value 100uH 500mA  (hidden comment: IND SMD 100UH 500MA)
Manufacturer: Bourns; Manufacturer Part Number: SLF7045T-101MR50-PF; COD. CRISTOFOLI: EMP.00056; List: Indutores fixos SMD 100uH 0.5amps / SLF7045T-101MR50-PF / Bourns
pins: 1, 2

## INDUTOR LINE FILTER
designator L?, comment value 6mH - 1.6A - 185mOhm  (hidden comment: INDUTOR 1.6A 6mH)
Manufacturer: PANASONIC; Manufacturer Part Number: ELF-18N016A; COD. CRISTOFOLI: EMP.00088; List: LINE FILTER 6.0MH 1.6A N SERIES/ ELF18N016/ PANASONIC
pins: 1 LINE (in), 2 LINE (out), 3 LINE (out), 4 LINE (in)

## INDUTOR MODO COMUM
designator L?  value 7.2mH  (hidden comment: INDUTOR MODO COMUM)
INDUTOR; List: INDUTOR MC
pins: 1 LINE (in), 4 LINE (out), 5 LINE (out), 8 LINE (in)

## IS SENS TEMP LM35DZ
designator U?  Manufacturer Part Number: LM35DZ-ND  (hidden comment: IS SENS TEMP LM35DZ)
Sensor de temperatura, 3-pin TO-92, Pb-Free; PartNumber: LM35DZ/NOPB; Manufacturer: National Semiconductor; PackageTopMarking: NSXYTT*LM35*DZ; PowerWise: N; CompType: Temp Sensor IC; COD. CRISTOFOLI: EMP.00309; List: SENSOR TEMP RATIOMETRIC TO92-3/LM35DZ/NOPB/Texas Instrumets; Published: 1-Mar-2010; DatasheetVersion: Nov-2000; PackageVersion: revG, Sep-2000; PackageReference: Z03A; Publisher: Altium Limited; PackageDescription: TO-92, Molded, 3 Lead; Supplier 1: Digi-Key; Supplier 2: Farnell; Supplier Part Number 2: 1469236; RoHS: Y; PinCount: 3; ComponentLink1Description: LM35 Datasheet; ComponentLink1URL: http://www.national.com/ds/LM/LM35.pdf; ComponentLink2Description: LM35 Web Page; ComponentLink2URL: http://www.national.com/pf/LM/LM35.html; ComponentLink3Description: Z03A Package Page; ComponentLink3URL: http://www.national.com/packaging/folders/z03a.html
footprint Z03A (TO, Flat Index; 3 In-Line, Axial Leads; Body Dia. 5mm; Leads 0.55 x 0.50 mm (max))
pins: 1 +VS (in), 2 VO (out), 3 GND (power)

## JP FEM 2 VIAS 180º 2.54MM
designator JP?
Manufacturer: METALTEX; Manufacturer Part Number: JC-02; COD. CRISTOFOLI: EMP.00055; List: Jumper 2,54mm com Abas / JC-02 / Metaltex
text: JUMPER

## LCD 1602 AZUL
designator LCD1, comment LCD16X2
DISPLAY LCD 16X2 C/ BACKLIGHT AZUL; Manufacturer Part Number: PISCA LED; COD. CRISTOFOLI: EMP.00000; Display LCD: BOM DISPLAY LCD; list: DISPLAY LCD 16X2 C/ BACKLIGHT AZUL
pins: 1 VSS, 2 VDD, 3 VO, 4 RS, 5 RW, 6 E, 7 DB0, 8 DB1, 9 DB2, 10 DB3, 11 DB4, 12 DB5, 13 DB6, 14 DB7, 15 A, 16 K

## LCD_/APEX(Maru_M)
designator LCD1, comment LCD16X2
DISPLAY LCD 16X2 C/ BACKLIGHT AZUL; Manufacturer Part Number: APEX(Maru_M); Manufacturer: AXBC16AGQWH-MM; EMP: EMP.00169; list: DISPLAY LCD 16X2 C/ BACKLIGHT AZUL /ITM-1602BBTBL /Intech//AXBC16AGQWH-MM/APEX(Maru_M); Display LCD: BOM DISPLAY LCD; Preço: 5,5
footprint Display_LCD_V2
pins: 1 VSS, 2 VDD, 3 VO, 4 RS, 5 RW, 6 E, 7 DB0, 8 DB1, 9 DB2, 10 DB3, 11 DB4, 12 DB5, 13 DB6, 14 DB7, 15 BACK-, 16 BACK+

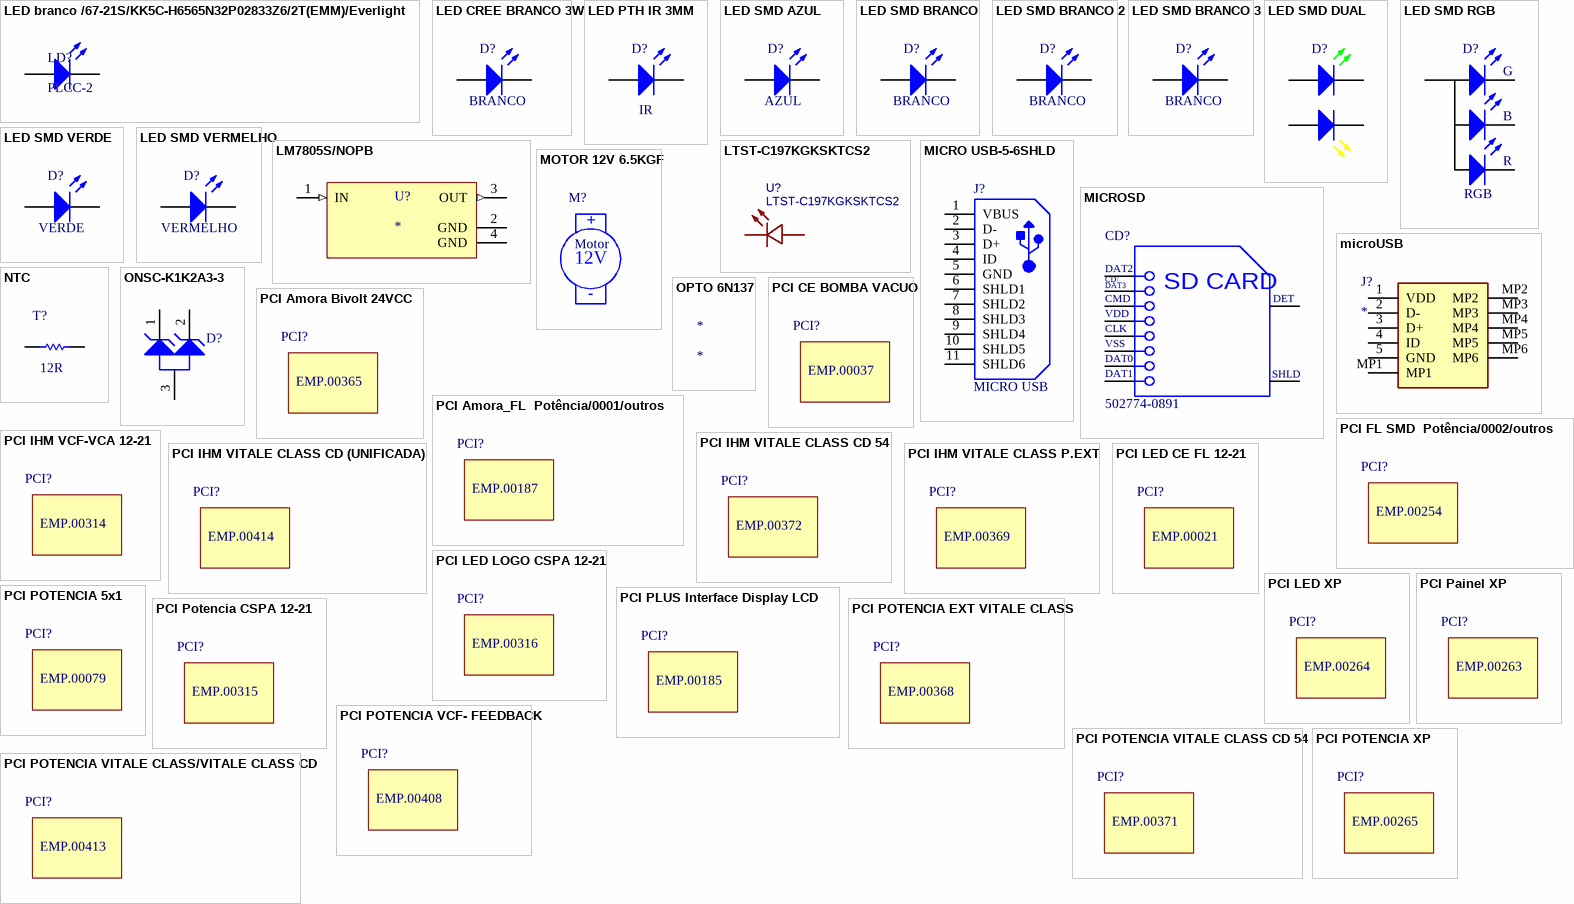
[diagram p9: symbols LED branco /67-21S/KK5C-H6565N32P02833Z6/2T(EMM)/Everlight to PCI POTENCIA XP]

## LED branco /67-21S/KK5C-H6565N32P02833Z6/2T(EMM)/Everlight
designator LD?, comment PLCC-2
COD. CRISTOFOLI: EMP.00388; List: LED branco /67-21S/KK5C-H6565N32P02833Z6/2T(EMM)/Everlight
footprint PLCC-2
pins: 1 A, 2 K

## LED CREE BRANCO 3W
designator D?, comment value BRANCO  (hidden comment: LED SMD BRANCO 3W)
High Power LEDs - White White, 107lm; Manufacturer: CREE LED; Manufacturer Part Number: XPEBWT-L1-R250-00D53; COD. CRISTOFOLI: EMP.00000; Voltage: 2.9V; List: LED  BRANCO 3W / XPEBWT-L1-R250-00D53 / LED CREE
pins: 1 A, 2 K

## LED PTH IR 3MM
designator D?  value IR  (hidden comment: LED PTH IR 3MM)
Infrared Emitters Emitter Clear 940nm; Manufacturer: LITE ON; Manufacturer Part Number: LTE-209; COD. CRISTOFOLI: EMP.00000; Voltage: 1.2V; List: LED PTH 3MM IR / LTE-209 / LITE ON
pins: 1 A, 2 K

## LED SMD AZUL
designator D?  value AZUL  (hidden comment: LED SMD AZUL)
COD. CRISTOFOLI: EMP.00008; List: LED - SMD BLUE CLEAR NON-DIFF - SUN LED XZCBD105S / EVERLIGHT 67-21/B7C-AS2U1N/2T
pins: 1 A, 2 K

## LED SMD BRANCO
designator D?  value BRANCO  (hidden comment: LED SMD BRANCO)
COD. CRISTOFOLI: EMP.00010; List: LED - SMD WHITE CLEAR NON-DIFF - SUN LED XZCWD105S / EVERLIGHT 67-21UKC/S3282/TR8-D ( descontinuado) //67-21S/KK2C-H6565M41N42936Z6/2T
pins: 1 A, 2 K

## LED SMD BRANCO 2
designator D?  value BRANCO  (hidden comment: LED SMD BRANCO 2)
COD. CRISTOFOLI: EMP.00009; List: LED - SMD WHITE CLEAR NON-DIFF SIDE VIEW - SUN LED XZFWS56F
pins: 1 A, 2 K

## LED SMD BRANCO 3
designator D?  value BRANCO  (hidden comment: LED SMD BRANCO 3)
COD. CRISTOFOLI: EMP.00388; List: LED branco /67-21S/KK5C-H6565N32P02833Z6/2T(EMM)/Everlight
pins: 1 A, 2 K

## LED SMD DUAL
designator D?  (value not drawn)
COD. CRISTOFOLI: EMP.00010; List: LED - SMD WHITE CLEAR NON-DIFF - SUN LED XZCWD105S / EVERLIGHT 67-21UKC/S3282/TR8-D ( descontinuado) //67-21S/KK2C-H6565M41N42936Z6/2T; Value: BRANCO
footprint LTST-C197 (Footprint not found)
footprint LTST-C197 (dual led 0606)
pins: 1 A, 2 A, 3 K, 4 K

## LED SMD RGB
designator D?  value RGB  (hidden comment: LED SMD RGB)
COD. CRISTOFOLI: EMP.00237; List: LED RED/GREEN/BLU WATER CLR 0603/19-137/R6GHBHC-A01/2T/Everlight Electronics Co Ltd/CRITICO
pins: 1 K, 2 K, 3 K, 4 A
text: G; B; R

## LED SMD VERDE
designator D?  value VERDE  (hidden comment: LED SMD VERDE)
COD. CRISTOFOLI: EMP.00313; List: LED VERDE SMD/(67-21S/G1C-D1530D5D83039Z2/2T)/EVERLIGHT
pins: 1 A, 2 K

## LED SMD VERMELHO
designator D?  value VERMELHO  (hidden comment: LED SMD VERMELHO)
COD. CRISTOFOLI: EMP.00007; List: LED - SMD RED CLEAR NON-DIFF - SUN LED XZMDK105S / EVERLIGHT 67-21SURC/S530-A2/TR8
pins: 1 A, 2 K

## LM7805S/NOPB
designator U?
MP: LM7805S/NOPB; Price: None; Value: *; Package: None; Availability: Unavailable
footprint TO254P1524X483-4N
pins: 1 IN (in), 2 GND (power), 3 OUT (out), 4 GND (power)

## LTST-C197KGKSKTCS2
designator U?
Manufacturer: LITEON(光宝); Contributor: lcsc; Supplier: LCSC; Supplier Part: C284906; Manufacturer Part: LTST-C197KGKSKTCS2; spicePre: U; spiceSymbolName: LTST-C197KGKSKTCS2
footprint LTST-C197KGKSKTCS2
pins: 1 K, 2 A

## MICRO USB-5-6SHLD
designator J?, comment MICRO USB
Micro-USB B Receptacle, Right Angle, Bottom Mount, Surface Mount, with Solder Tabs, -30 to 85 degC, 5-Pin USB, RoHS, Tape and Reel; Manufacturer: Molex / Metaltex; Partnumber: WM1399DKR / MICUSB-B5NS; Featured Product: Micro-USBConnectorsUSBConnectors; Other Names: WM1399DKR; Package Version: Rev. F, 12/2012; Number of Contacts: 5; Connector Type: USB-microB; Catalog Drawings: 1050170001; 3D Model: 105017-0001.stp; Mating Products: WM17145-ND-CABLEMICROUSBBTOSTDA1.0MWM17147-ND-CABLEMICROUSBBTOSTDA2.0MWM17146-ND-CABLEMICROUSBBTOSTDA1.5M; PCN Assembly/Origin: ResinSupplier21/Oct/2015; Voltage - Max: 30V; Online Catalog: Molex-MicroUSB; Manufacturer URL: http://www.molex.com/; Package Description: 5-Leads USB, Micro B, Body 7.5 x 5 mm, Pitch 0.65 mm; Datasheet URL: http://www.molex.com/elqNow/elqRedir.htm?ref=http://www.molex.com/webdocs/datasheets/pdf/en-us/1050170001_IO_CONNECTORS.pdf; Ingress Protection: -; Datasheet Version: 03/2016; Mounting Type: BoardCutout,SurfaceMount,RightAngle; Circuits: 5; Standard Package: 1; Package Reference: MICRO-B; Package URL: http://www.molex.com/pdm_docs/sd/1050170001_sd.pdf; Category: Connectors,Interconnects; Series: -; RoHS Information: 1050170001CertofCompliance; Features: Shielded,SolderRetention; Family: USB,DVI,HDMIConnectors; Specifications: -; Gender: Receptacle; Packaging: Digi-Reel®; Mounting Technology: SurfaceMount
footprint USB-MICRO-B_V (USB, MICRO B, Body 7.491x4.695 mm, Pitch 0.65 mm)
pins: 1 VBUS, 2 D-, 3 D+, 4 ID, 5 GND, 6 SHLD1, 7 SHLD2, 8 SHLD3, 9 SHLD4, 10 SHLD5, 11 SHLD6

## MICROSD
designator CD?, comment 502774-0891
Micro SD Memory Card Connector, 0.5 A, 10 V (DC), -25 to 85 degC, 8-Pin SMT, RoHS, Tape and Reel; Manufacturer: Molex; 3D Model: 502774-0891.stp; Online Catalog: microSD™Series; Number of Positions: 10(8+2); Card Type: SecureDigital-microSD™; Insertion, Removal Method: PushIn,PushOut; Other Names: WM24066DKR; Connector Type: ConnectorandEjector; Features: Switch; Family: MemoryConnectors-PCCardSockets; Manufacturer URL: http://www.molex.com/; Mounting Type: SurfaceMount,RightAngle; Contact Finish Thickness: 20µin(0.51µm); Standard Package: 1; Series: 502774; Ejector Side: -; Datasheet Version: Rev. D, 04/2004; Category: Connectors,Interconnects; Contact Finish: Gold; Datasheet URL: https://datasheet.ciiva.com/1104/1499551-1104671.pdf; RoHS Information: 502774-0891CertofCompliance; Mounting Feature: Reverse-Bottom; Packaging: Digi-Reel; Height Above Board: 0.071"(1.80mm); Catalog Drawings: 502774-0891
footprint MICROSD_112J-TDAR-R01
pins: 1 DETECT, 2 DAT1, 3 DAT0, 4 VSS, 5 CLK, 6 VDD, 7 CMD, 8 CD/DAT3, 9 DAT2, 10 SHLD
text: CD/; DAT3; SD CARD; DET

## microUSB
designator J?
Connector; Manufacturer_Name: Amphenol Communications Solutions; Manufacturer_Part_Number: 10118192-0002LF; Datasheet Link: https://cdn.amphenol-cs.com/media/wysiwyg/files/drawing/10118192.pdf; Height: 3.08mm; Arrow Part Number: 10118192-0002LF; Arrow Price/Stock: https://www.arrow.com/en/products/10118192-0002lf/amphenol-fci?utm_currency=USD&region=nac
footprint microUSB
pins: 1 VDD, 2 D-, 3 D+, 4 ID, 5 GND, MP1, MP2, MP3, MP4, MP5, MP6

## MOTOR 12V 6.5KGF
designator M?  value Motor  (hidden comment: MOTOR 12V 6.5KGF)
COD. CRISTOFOLI: EMP.00038; List: Motor 12V 6,5Kg/cm^2
text: +; 12V; -

## NTC
designator T?  value 12R  (hidden comment: NTC)
Inrush Current Limiter; Manufacturer: EPCOS; Manufacturer Part Number: B57211P0120M301; COD. CRISTOFOLI: EMP.00438; Tolerance: 20%; List: ICL 12 OHM 20% 4A 13MM
pins: 1 LINE, 2 LINE

## ONSC-K1K2A3-3
designator D?, comment MMBZ6V8ALT1G  (value not drawn)
40 W Peak Power Zener Transient Voltage Suppressor, Dual Common Anode Zeners for ESD Protection, 3-Pin SOT-23, Pb-Free, Tape and Reel; Manufacturer: On Semiconductor; V(BR) Typ (V): 6.8; IR Max (uA): 0.5; PPK Max (W): 24; Direction: Unidirectional; PartNumber: MMBZ6V8ALT1G; PackageReference: SOT-23-3-318-08; RoHS: Pb-Free; ComponentLink2URL: http://www.onsemi.com/pub_link/Collateral/MMBZ5V6ALT1-D.PDF; PackageVersion: Rev. AP, 11/2009; DatasheetVersion: Rev. 13; Packing: Tape and Reel; ComponentLink3Description: Package Specification; ComponentLink3URL: http://www.onsemi.cn/pub_link/Collateral/318-08.PDF; ComponentLink1URL: http://www.onsemi.com/; Mounting Technology: Surface Mount; ComponentLink1Description: Manufacturer URL; PackageDescription: 3-Pin Small Outline Transistor, Body 2.92 x 1.3 mm, Pitch 0.95 mm; ComponentLink2Description: Datasheet
footprint SOT-23-3
pins: 1 K1, 2 K2, 3 A

## OPTO 6N137
designator *

## PCI Amora Bivolt 24VCC
designator PCI?  COD. CRISTOFOLI: EMP.00365  (hidden comment: PCI Amora Bivolt 24VCC)
List: PCI Amora_Bivolt_24VCC_PRB.00283

## PCI Amora_FL  Potência/0001/outros
designator PCI?  COD. CRISTOFOLI: EMP.00187  (hidden comment: PCI Amora_FL  Potência/0001/outros)
List: PCI Amora_FL  Potência/0001/outros

## PCI CE BOMBA VACUO
designator PCI?  COD. CRISTOFOLI: EMP.00037  (hidden comment: PCI CE BOMBA VACUO)
List: PCI CE BOMBA VACUO

## PCI FL SMD  Potência/0002/outros
designator PCI?  COD. CRISTOFOLI: EMP.00254  (hidden comment: PCI FL SMD  Potência/0002/outros)
List: PCI FL SMD  Potência/0002/outros

## PCI IHM VCF-VCA 12-21
designator PCI?  COD. CRISTOFOLI: EMP.00314  (hidden comment: PCI IHM VCF-VCA 12-21)
List: PCI IHM VCF-VCA 12-21 /PRB.00276/PRB.00299/PRB.00317/PRB.00334 GENERIC

## PCI IHM VITALE CLASS CD 54
designator PCI?  COD. CRISTOFOLI: EMP.00372  (hidden comment: PCI IHM VITALE CLASS CD 54)
List: PCB IHM   VITALE CLASS CD 54  PRB.00287

## PCI IHM VITALE CLASS CD (UNIFICADA)
designator PCI?  COD. CRISTOFOLI: EMP.00414  (hidden comment: PCI IHM VITALE CLASS CD (UNIFICADA))
List: PCI IHM VITALE CLASS CD (UNIFICADA)

## PCI IHM VITALE CLASS P.EXT
designator PCI?  COD. CRISTOFOLI: EMP.00369  (hidden comment: PCI IHM VITALE CLASS P.EXT)
List: PCI IHM VITALE CLASS P.EXT/PRB.00296

## PCI LED CE FL 12-21
designator PCI?  COD. CRISTOFOLI: EMP.00021  (hidden comment: PCI LED CE FL 12-21)
List: PCI CE LED SMD FL 12/21

## PCI LED LOGO CSPA 12-21
designator PCI?  COD. CRISTOFOLI: EMP.00316  (hidden comment: PCI LED LOGO CSPA 12-21)
List: PCI LED LOGO CSPA 12-21/ PRB.00279/Generic

## PCI LED XP
designator PCI?  COD. CRISTOFOLI: EMP.00264  (hidden comment: PCI LED XP)
List: PCB LED XP/PRB-00270/Generic

## PCI Painel XP
designator PCI?  COD. CRISTOFOLI: EMP.00263  (hidden comment: PCI Painel XP)
List: PCB Painel XP/PRB-00271/Generic

## PCI PLUS Interface Display LCD
designator PCI?  COD. CRISTOFOLI: EMP.00185  (hidden comment: PCI PLUS Interface Display LCD)
List: PCI PLUS Interface Display LCD

## PCI POTENCIA 5x1
designator PCI?  COD. CRISTOFOLI: EMP.00079  (hidden comment: PCI POTENCIA 5x1)
List: PCI POTENCIA 5x1

## PCI Potencia CSPA 12-21
designator PCI?  COD. CRISTOFOLI: EMP.00315  (hidden comment: PCI Potencia CSPA 12-21)
List: PCI Potencia CSPA 12-21/PRB.00277/Generic

## PCI POTENCIA EXT VITALE CLASS
designator PCI?  COD. CRISTOFOLI: EMP.00368  (hidden comment: PCI POTENCIA EXT VITALE CLASS)
List: PCB POTENCIA EXT VITALE CLASS PRB.00297

## PCI POTENCIA VCF- FEEDBACK
designator PCI?  COD. CRISTOFOLI: EMP.00408  (hidden comment: PCI POTENCIA VCF- FEEDBACK)
List: PCB POTENCIA VCF- FEEDBACK /EMP.00408/GENERIC

## PCI POTENCIA VITALE CLASS CD 54
designator PCI?  COD. CRISTOFOLI: EMP.00371  (hidden comment: PCI POTENCIA VITALE CLASS CD 54)
List: PCB POTENCIA  VITALE CLASS CD 54  PRB.00291

## PCI POTENCIA VITALE CLASS/VITALE CLASS CD
designator PCI?  COD. CRISTOFOLI: EMP.00413  (hidden comment: PCI POTENCIA VITALE CLASS/VITALE CLASS CD)
List: PCI POTENCIA VITALE CLASS/VITALE CLASS CD

## PCI POTENCIA XP
designator PCI?  COD. CRISTOFOLI: EMP.00265  (hidden comment: PCI POTENCIA XP)
List: PCB POTENCIA XP/PRB-00269/Generic

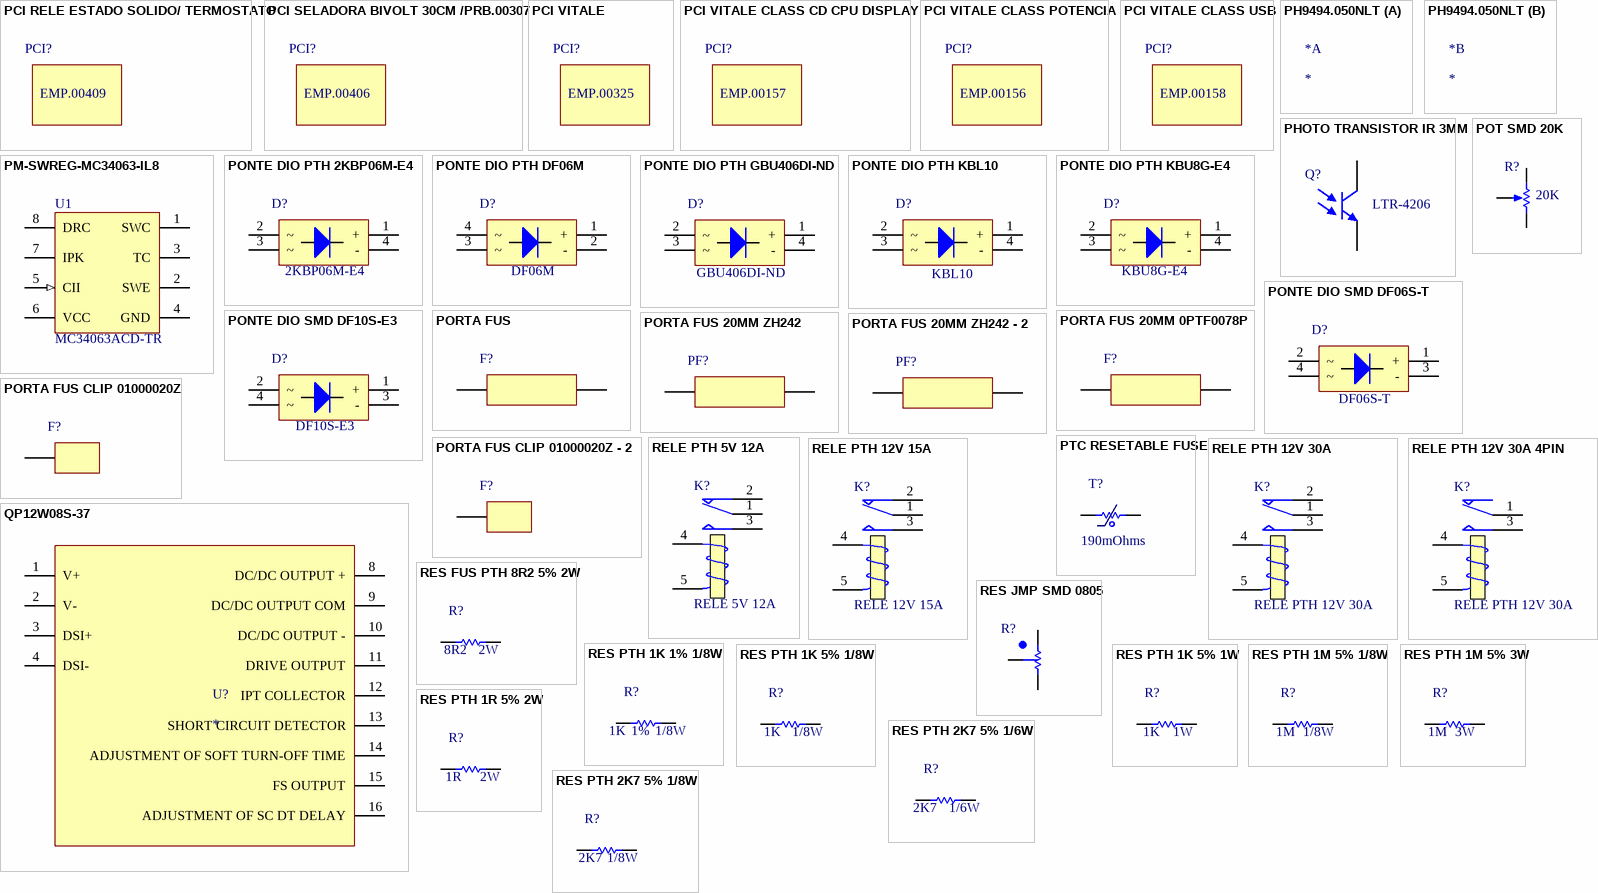
[diagram p10: symbols PCI RELE ESTADO SOLIDO/ TERMOSTATO to RES PTH 2K7 5% 1/8W]

## PCI RELE ESTADO SOLIDO/ TERMOSTATO
designator PCI?  COD. CRISTOFOLI: EMP.00409  (hidden comment: PCI RELE ESTADO SOLIDO/ TERMOSTATO)
List: PCB RELE ESTADO SOLIDO/ TERMOSTATO/EMP.00409/GENERIC

## PCI SELADORA BIVOLT 30CM /PRB.00307
designator PCI?  COD. CRISTOFOLI: EMP.00406  (hidden comment: PCI SELADORA BIVOLT 30CM /PRB.00307)
List: PCB SELADORA BIVOLT 30CM /PRB.00307

## PCI VITALE
designator PCI?  COD. CRISTOFOLI: EMP.00325  (hidden comment: PCI VITALE)
List: PCB VITALE PRB.00275/GENERIC

## PCI VITALE CLASS CD CPU DISPLAY
designator PCI?  COD. CRISTOFOLI: EMP.00157  (hidden comment: PCI VITALE CLASS CD CPU DISPLAY)
List: PCI  VITALE CLASS CD CPU DISPLAY

## PCI VITALE CLASS POTENCIA
designator PCI?  COD. CRISTOFOLI: EMP.00156  (hidden comment: PCI VITALE CLASS POTENCIA)
List: PCI  VITALE CLASS POTENCIA

## PCI VITALE CLASS USB
designator PCI?  COD. CRISTOFOLI: EMP.00158  (hidden comment: PCI VITALE CLASS USB)
List: PCI  VITALE CLASS USB

## PH9494.050NLT
designator *

## PHOTO TRANSISTOR IR 3MM
designator Q?  value LTR-4206  (hidden comment: PHOTO TRANSISTOR IR 3MM)
Phototransistors Phototrans Clear; Manufacturer: LITE ON; COD. CRISTOFOLI: EMP.00000; Voltage: 30V; List: PHOTO TRANSISTOR IR 3MM / LTR-4206 / LITE ON; Manufacturer Part Number: LTR-4206
pins: 1 E, 2 C

## PM-SWREG-MC34063-IL8
designator U1, comment MC34063ACD-TR
DC/DC converter control circuit, 8-Pin SO, Tape and Reel; Code_IPC: SOIC127P600-8; ComponentLink2Description: Datasheet; ComponentLink3Description: Package Specification; PackageDescription: 8-Pin Small Outline Integrated Circuit 1.27 mm Pitch; Code_JEDEC: MS-012-AA; ComponentLink3URL: http://www.st.com/internet/com/TECHNICAL_RESOURCES/TECHNICAL_LITERATURE/PACKAGE_INFORMATION/CD00004680.pdf; ComponentLink1Description: Manufacturer URL; ComponentLink1URL: http://www.st.com; DatasheetVersion: Nov-2007; ComponentLink2URL: http://www.st.com/internet/com/TECHNICAL_RESOURCES/TECHNICAL_LITERATURE/DATASHEET/CD00001232.pdf; PackageReference: SO8; PackageVersion: Dec-2002
footprint SOIC8
pins: 1 SWC (oc), 2 SWE (oe), 3 TC, 4 GND (power), 5 CII (in), 6 VCC (power), 7 IPK, 8 DRC (oc)

## PONTE DIO PTH 2KBP06M-E4
designator D?  value 2KBP06M-E4  (hidden comment: PONTE DIO PTH 2KBP06M-E4)
COD. CRISTOFOLI: EMP.00215; List: RECTIFIER BRIDGE 2A 600V KBPM/2KBP06M-E4/51/Vishay Semiconductor Diodes Division/  DIODES INCORPORATED - KBP206G
pins: 1 +, 2 ~, 3 ~, 4 -

## PONTE DIO PTH DF06M
designator D?  value DF06M  (hidden comment: PONTE DIO PTH DF06M)
COD. CRISTOFOLI: EMP.00032; List: RECT BRIDGE GPP 600V 1A DF-M - DF06M
pins: 1 +, 2 -, 3 ~, 4 ~

## PONTE DIO PTH GBU406DI-ND
designator D?  value GBU406DI-ND  (hidden comment: PONTE DIO PTH GBU406DI-ND)
COD. CRISTOFOLI: EMP.00338; List: RECT BRIDGE GPP 4A 600V GBU/GBU406DI-ND/Diodes Incorporated
pins: 1 +, 2 ~, 3 ~, 4 -

## PONTE DIO PTH KBL10
designator D?, comment value KBL10  (hidden comment: PONTE DIO PTH GBU406DI-ND)
COD. CRISTOFOLI: EMP.50053; List: PONTE DIO PTH KBL10 SIP4; Parameter 1: *
footprint DIOB_GBU8K
pins: 1 +, 2 ~, 3 ~, 4 -

## PONTE DIO PTH KBU8G-E4
designator D?  value KBU8G-E4  (hidden comment: PONTE DIO PTH KBU8G-E4)
COD. CRISTOFOLI: EMP.00337; List: RECTIFIER BRIDGE 8A 400V KBU/KBU8G-E4/51/Vishay / DIODES INCORPORATED - GBU804
pins: 1 +, 2 ~, 3 ~, 4 -

## PONTE DIO SMD DF06S-T
designator D?  value DF06S-T  (hidden comment: PONTE DIO SMD DF06S-T)
Manufacturer: Diodes Inc; COD. CRISTOFOLI: EMP.00039; List: RECT BRIDGE GPP 1A 600V DFS / DF06S-T / Diodes Inc; Manufacturer Part Number: DF06S-T
pins: 1 +, 2 ~, 3 -, 4 ~

## PONTE DIO SMD DF10S-E3
designator D?  value DF10S-E3  (hidden comment: PONTE DIO SMD DF10S-E3)
COD. CRISTOFOLI: EMP.00089; List: DIODE BRIDGE GPP 1A 1000V 4SMD/DF10S-E3/45/Vishay
pins: 1 +, 2 ~, 3 -, 4 ~

## PORTA FUS
designator F?  (value not drawn)
pins: 1, 2

## PORTA FUS 20MM 0PTF0078P
designator F?  (value not drawn)
Manufacturer: Littelfuse Inc.; COD. CRISTOFOLI: EMP.00373; List: FUSE BLOCK CARTRIDGE PCB/0PTF0078P/Littelfuse Inc.; Manufacturer Part Number: 0PTF0078P
pins: 1, 2

## PORTA FUS 20MM ZH242
designator PF?  (value not drawn)
Manufacturer: METALTEX; COD. CRISTOFOLI: EMP.00026; List: PORTA  FUSÍVEIS - ZH242; Manufacturer Part Number: ZH242
pins: 1, 2

## PORTA FUS 20MM ZH242 - 2
designator PF?  (value not drawn)
Manufacturer: METALTEX; COD. CRISTOFOLI: EMP.00085; List: Porta Fusivel PCB 6A /ZH242/Metaltex; Manufacturer Part Number: ZH242
pins: 1, 2

## PORTA FUS CLIP 01000020Z
designator F?  (value not drawn)
Manufacturer: Liftuse; COD. CRISTOFOLI: EMP.00191; List: FUSE CLIP CARTRIDGE 600V 20A PCB / 01000020Z / Liftuse; Manufacturer Part Number: 01000020Z
pins: 1

## PORTA FUS CLIP 01000020Z - 2
designator F?  (value not drawn)
Manufacturer: Liftuse; COD. CRISTOFOLI: EMP.00051; List: FUSE CLIP CARTRIDGE 600V 20A PCB / 01000020Z / Liftuse; Manufacturer Part Number: 01000020Z
pins: 1

## POT SMD 20K
designator R?  value 20K  (hidden comment: POT SMD 20K)
COD. CRISTOFOLI: EMP.00343; List: TRIMMER 20K OHM 0.25W SMD/3314G-1-203E/Bourns Inc.
pins: 1 TOP, 2 BOT, 3 TAP

## PTC RESETABLE FUSE
designator T?, comment value 190mOhms  (hidden comment: PTC FUSE)
Inrush Current Limiter; Manufacturer: Littelfuse; Manufacturer Part Number: 60R185XMR - LP60185; COD. CRISTOFOLI: EMP.00000; Tolerance: 20%; Voltage: 60; List: Fusíveis rearmáveis - PPTC 60V 1.85A RADIAL LEADS
pins: 1 LINE, 2 LINE

## QP12W08S-37
designator U?
footprint QP12W08S-37
pins: 1 V+, 2 V-, 3 DSI+, 4 DSI-, 8 DC/DC OUTPUT +, 9 DC/DC OUTPUT COM, 10 DC/DC OUTPUT -, 11 DRIVE OUTPUT, 12 IPT COLLECTOR, 13 SHORT CIRCUIT DETECTOR, 14 ADJUSTMENT OF SOFT TURN-OFF TIME, 15 FS OUTPUT, 16 ADJUSTMENT OF SC DT DELAY

## RELE PTH 5V 12A
designator K?, comment RELE 5V 12A
SPDT Relay; List: RELÉ MINIATURA  5V 12A /A1RC-5V/Metaltex; COD. CRISTOFOLI: EMP.00224; Published: 8-Jun-2000; LatestRevisionDate: 17-Jul-2002; LatestRevisionNote: Re-released for DXP Platform.; PackageReference: MODULE5B; Publisher: Altium Limited
footprint MODULE5B (DIP; 5 Round Pins; Row Space 15.24 mm; Pitch 2.54 mm)
simulation model SPDTRELAY (Spice Subcircuit)
pins: 1 COM, 2 NC, 3 NO, 4 T1, 5 T2

## RELE PTH 12V 15A
designator K?, comment RELE 12V 15A
SPDT Relay; List: RELÉ MINIATURA  12V  15A    - AY1R C2 /  AX1R C2; COD. CRISTOFOLI: EMP.00034; Published: 8-Jun-2000; LatestRevisionDate: 17-Jul-2002; LatestRevisionNote: Re-released for DXP Platform.; PackageReference: MODULE5B; Publisher: Altium Limited
footprint RELEAYR
simulation model SPDTRELAY (Spice Subcircuit)
pins: 1 COM, 2 NC, 3 NO, 4 T1, 5 T2

## RELE PTH 12V 30A
designator K?
SPDT Relay; List: MINIATURE POWER RELAY 12V  30A  - J1NAC2; COD. CRISTOFOLI: EMP.00033; Published: 8-Jun-2000; LatestRevisionDate: 17-Jul-2002; LatestRevisionNote: Re-released for DXP Platform.; PackageReference: MODULE5B; Publisher: Altium Limited
footprint MODULE5B (DIP; 5 Round Pins; Row Space 15.24 mm; Pitch 2.54 mm)
simulation model SPDTRELAY (Spice Subcircuit)
pins: 1 COM, 2 NC, 3 NO, 4 T1, 5 T2

## RELE PTH 12V 30A 4PIN
designator K?, comment RELE PTH 12V 30A
SPDT Relay; List: MINIATURE POWER RELAY 12V  30A  - J1NAC2; COD. CRISTOFOLI: EMP.00033; Published: 8-Jun-2000; LatestRevisionDate: 17-Jul-2002; LatestRevisionNote: Re-released for DXP Platform.; PackageReference: MODULE5B; Publisher: Altium Limited
footprint RELE_SLA-12VDC-SL-A
pins: 1 COM, 3 NO, 4 T1, 5 T2

## RES FUS PTH 8R2 5% 2W
designator R?  value 8R2  Power: 2W  (hidden comment: RES FUS PTH 8R2 5% 2W)
COD. CRISTOFOLI: EMP.00394; List: RES FUSIBLE 8.2 OHM 2W 5% AXIAL FKN200JR-73-8R2 / YAGEO/ CRITICO; Tolerance: 5%
pins: 1, 2

## RES JMP SMD 0805
designator R?, comment RES SMD 1K 1% 0805  (value not drawn)
COD. CRISTOFOLI: EMP.50098; Value: 0R; List: RES SMD 1K 1% 0805; Tolerance: 1%
footprint jmp0805sel
pins: 1, 2, 3

## RES PTH 1K 1% 1/8W
designator R?  value 1K  Tolerance: 1%  Power: 1/8W  (hidden comment: RES PTH 1K 1% 1/8W)
COD. CRISTOFOLI: EMP.00298; List: RES 1K OHM 1/8W 1% AXIAL/GENERIC
pins: 1, 2

## RES PTH 1K 5% 1/8W
designator R?  value 1K  Power: 1/8W  (hidden comment: RES PTH 1K 5% 1/8W)
COD. CRISTOFOLI: EMP.00288; List: RES 1K OHM 1/8W 5% CARBON FILM  AXIAL /CF18JT1K00/Generic; Tolerance: 5%
pins: 1, 2

## RES PTH 1K 5% 1W
designator R?  value 1K  Power: 1W  (hidden comment: RES PTH 1K 5% 1W)
COD. CRISTOFOLI: EMP.00118; List: RES 1.00K OHM 1W 5% AXIAL/3-1625885-1/TE Connectivity; Tolerance: 5%
pins: 1, 2

## RES PTH 1M 5% 1/8W
designator R?  value 1M  Power: 1/8W  (hidden comment: RES PTH 1M 5% 1/8W)
COD. CRISTOFOLI: EMP.00294; List: RES 1M OHM 1/8W 5% CARBON FILM  AXIAL /Generic; Tolerance: 5%
pins: 1, 2

## RES PTH 1M 5% 3W
designator R?  value 1M  Power: 3W  (hidden comment: RES PTH 1M 5% 3W)
COD. CRISTOFOLI: EMP.50144; Tolerance: 5%; List: RES PTH 1M 5% 3W
footprint RES3WVERT
footprint RES3W
pins: 1, 2

## RES PTH 1R 5% 2W
designator R?  value 1R  Power: 2W  (hidden comment: RES PTH 1R 5% 2W)
COD. CRISTOFOLI: EMP.00326; List: RES 1.00 OHM 2W 5% AXIAL/Gneric/generic; Tolerance: 5%
pins: 1, 2

## RES PTH 2K7 5% 1/6W
designator R?  value 2K7  Power: 1/6W  (hidden comment: RES PTH 2K7 5% 1/6W)
COD. CRISTOFOLI: EMP.00173; List: RESISTOR, CARBON , 2K7, 0.25W, 5% CR16/CFR16J2K7/TE CONNECTIVITY/Generic; Tolerance: 5%
pins: 1, 2

## RES PTH 2K7 5% 1/8W
designator R?  value 2K7  Power: 1/8W  (hidden comment: RES PTH 2K7 5% 1/8W)
COD. CRISTOFOLI: EMP.00304; List: RES 2K7 OHM 1/8W 5% CF AXIAL//Generic; Tolerance: 5%
pins: 1, 2

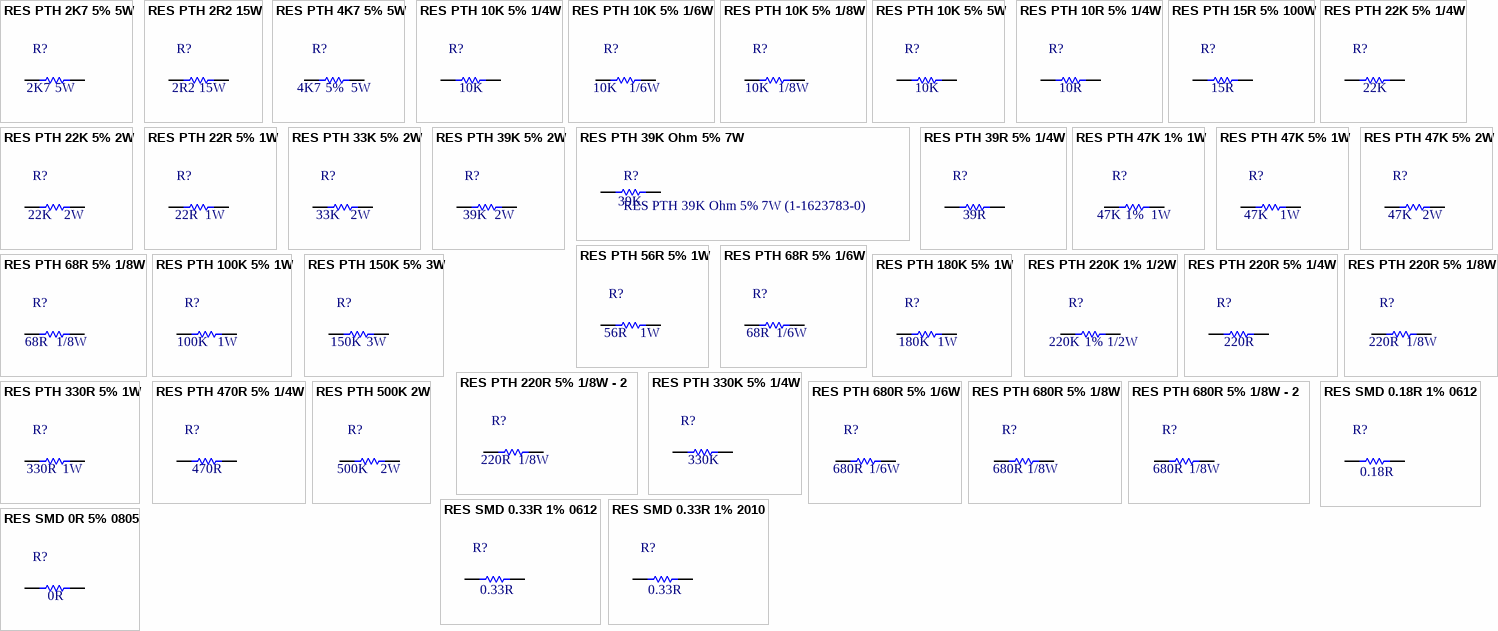
[diagram p11: symbols RES PTH 2K7 5% 5W to RES SMD 0R 5% 0805]

## RES PTH 2K7 5% 5W
designator R?  value 2K7  Power: 5W  (hidden comment: RES PTH 2K7 5% 5W)
COD. CRISTOFOLI: EMP.50153; Tolerance: 5%; List: RES PTH 2K7 5% 5W
footprint RES5W
footprint RES5WVERT
pins: 1, 2

## RES PTH 2R2 15W
designator R?  value 2R2  Power: 15W  (hidden comment: RES PTH 2R2 15W)
COD. CRISTOFOLI: EMP.50156; Tolerance: 5%; List: RES PTH 2R2 15W
footprint RES15WVERT
pins: 1, 2

## RES PTH 4K7 5% 5W
designator R?  value 4K7  Tolerance: 5%  Power: 5W  (hidden comment: RES PTH 4K7 5% 5W)
COD. CRISTOFOLI: EMP.50145; List: RES PTH 4K7 5% 5W
footprint RES5WVERT
pins: 1, 2

## RES PTH 10K 5% 1/4W
designator R?  value 10K  (hidden comment: RES PTH 10K 5% 1/4W)
COD. CRISTOFOLI: EMP.00029; List: RES 10.0K OHM 1/4W 5% AXIAL – 1625875-6; Tolerance: 5%
pins: 1, 2

## RES PTH 10K 5% 1/6W
designator R?  value 10K  Power: 1/6W  (hidden comment: RES PTH 10K 5% 1/6W)
COD. CRISTOFOLI: EMP.00172; List: RESISTOR, CARBON , 10K, 0.25W, 5% , CR16/CFR16J10K/TE CONNECTIVITY/Generic; Tolerance: 5%
pins: 1, 2